# Altium integrated library Jlink OB.IntLib: 12 symbols
Pins are listed as number, name and electrical type; pins without a type are passive.

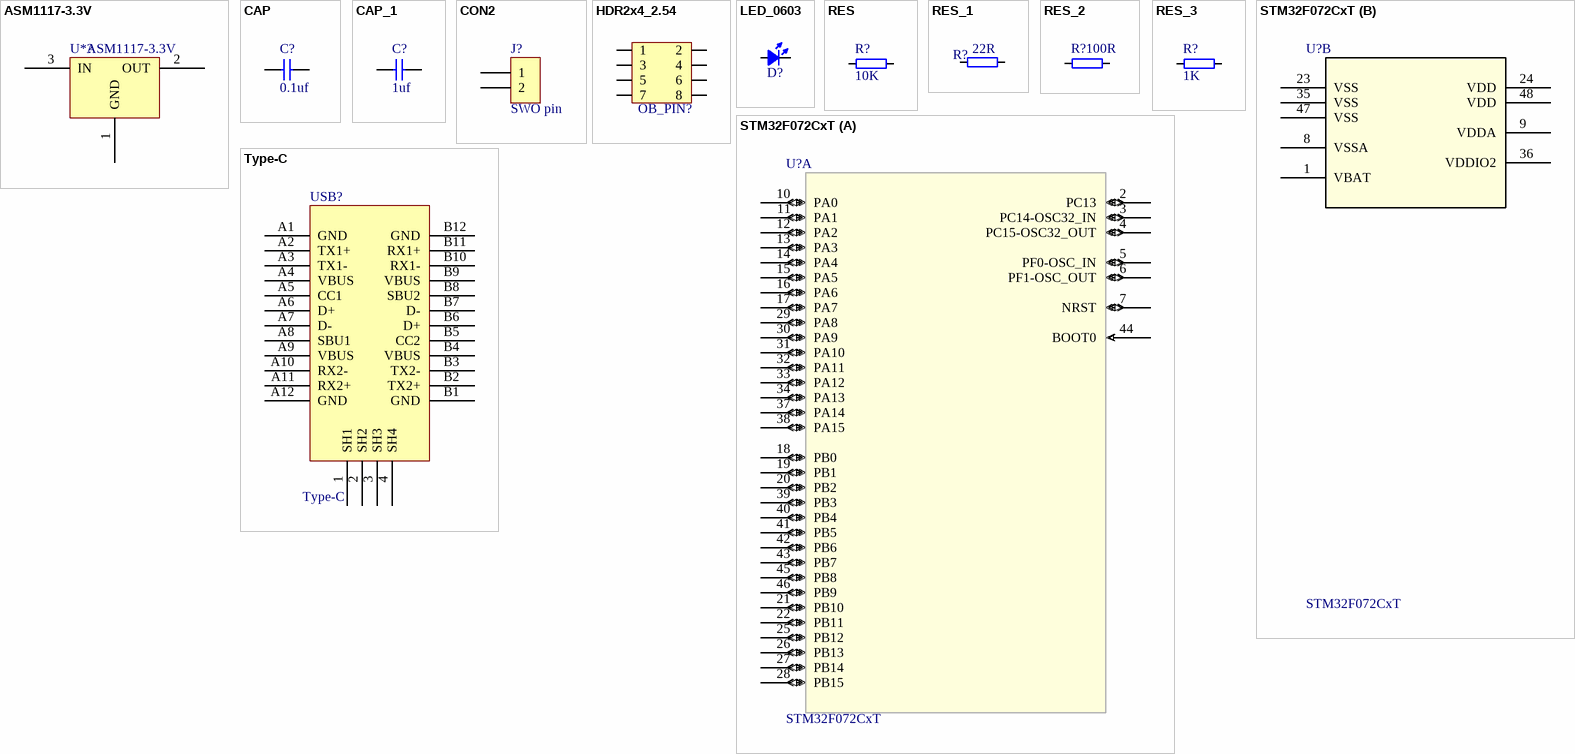
[diagram p0: symbols ASM1117-3.3V to Type-C]

## ASM1117-3.3V
designator U*?
三端可调或固定电压3.3V
footprint SOT-89
pins: 1 GND, 2 OUT, 3 IN

## CAP
designator C?, comment 0.1uf
Capacitor, NP0, ?.1pF; Part Number: C0402-1.2p; Value: 1.2pF; Note: 50V; Artikkelnr Noca: 20029157; Artikkelnr Simpro: N.A.; Manufacturer: *; Manufacturer Part Number: *; Datasheet: *; LatestRevisionDate: 2011-05-11; Pin Count: 2; Publisher: Nordic Semiconductor; Published: 2009-05-08; Supplier: *; Supplier part number: *; 2nd source Supplier: *; 2nd source part number: *; Footprint Doc: 0402
footprint C 0603_L (无极性贴片电容)
pins: 1, 2

## CAP_1
designator C?, comment 1uf
Capacitor, NP0, ?.1pF; Part Number: C0402-1.2p; Value: 1.2pF; Note: 50V; Artikkelnr Noca: 20029157; Artikkelnr Simpro: N.A.; Manufacturer: *; Manufacturer Part Number: *; Datasheet: *; LatestRevisionDate: 2011-05-11; Pin Count: 2; Publisher: Nordic Semiconductor; Published: 2009-05-08; Supplier: *; Supplier part number: *; 2nd source Supplier: *; 2nd source part number: *; Footprint Doc: 0402
footprint C 0603_L (无极性贴片电容)
pins: 1, 2

## CON2
designator J?, comment SWO pin
Connector
pins: 1, 2

## HDR2x4_2.54
designator OB_PIN?  (value not drawn)
Header
footprint HDR2X4_2.54_180H
pins: 1, 2, 3, 4, 5, 6, 7, 8

## LED_0603
designator D?  (value not drawn)
LED
footprint LED_0603_GREEN
pins: 1 A, 2 K

## RES
designator R?, comment 10K
footprint R 0603_L (1/10W贴片电阻)
pins: 1, 2

## RES_1
designator R?, comment 22R
footprint R 0603_L (1/10W贴片电阻)
pins: 1, 2

## RES_2
designator R?, comment 100R
footprint R 0603_L (1/10W贴片电阻)
pins: 1, 2

## RES_3
designator R?, comment 1K
footprint R 0603_L (1/10W贴片电阻)
pins: 1, 2

## STM32F072CxT
designator U?
Imported; Vendor: STMicroelectronics; C: Copyright (C) 2016 Accelerated Designs. All rights reserved; Copyright: Copyright (C) 2016 Accelerated Designs. All rights reserved; Manufacturer_Part_Number: stm32f072cxt; RefDes: RefDes; Type: Type; Value: Value
footprint LQFP_P0.5_48
part A pins: 2 PC13 (io), 3 PC14-OSC32_IN (io), 4 PC15-OSC32_OUT (io), 5 PF0-OSC_IN (io), 6 PF1-OSC_OUT (io), 7 NRST (io), 10 PA0 (io), 11 PA1 (io), 12 PA2 (io), 13 PA3 (io), 14 PA4 (io), 15 PA5 (io), 16 PA6 (io), 17 PA7 (io), 18 PB0 (io), 19 PB1 (io), 20 PB2 (io), 21 PB10 (io), 22 PB11 (io), 25 PB12 (io), 26 PB13 (io), 27 PB14 (io), 28 PB15 (io), 29 PA8 (io), 30 PA9 (io), 31 PA10 (io), 32 PA11 (io), 33 PA12 (io), 34 PA13 (io), 37 PA14 (io), 38 PA15 (io), 39 PB3 (io), 40 PB4 (io), 41 PB5 (io), 42 PB6 (io), 43 PB7 (io), 44 BOOT0 (in), 45 PB8 (io), 46 PB9 (io)
part B pins: 1 VBAT (power), 8 VSSA (power), 9 VDDA (power), 23 VSS (power), 24 VDD (power), 35 VSS (power), 36 VDDIO2 (power), 47 VSS (power), 48 VDD (power)

## Type-C
designator USB?
footprint PCBComponent_1
pins: 1 SH1, 2 SH2, 3 SH3, 4 SH4, A1 GND, A2 TX1+, A3 TX1-, A4 VBUS, A5 CC1, A6 D+, A7 D-, A8 SBU1, A9 VBUS, A10 RX2-, A11 RX2+, A12 GND, B1 GND, B2 TX2+, B3 TX2-, B4 VBUS, B5 CC2, B6 D+, B7 D-, B8 SBU2, B9 VBUS, B10 RX1-, B11 RX1+, B12 GND